# EAGLE library part TLV320AIC3256_YZF_42 (library Texas Instruments)
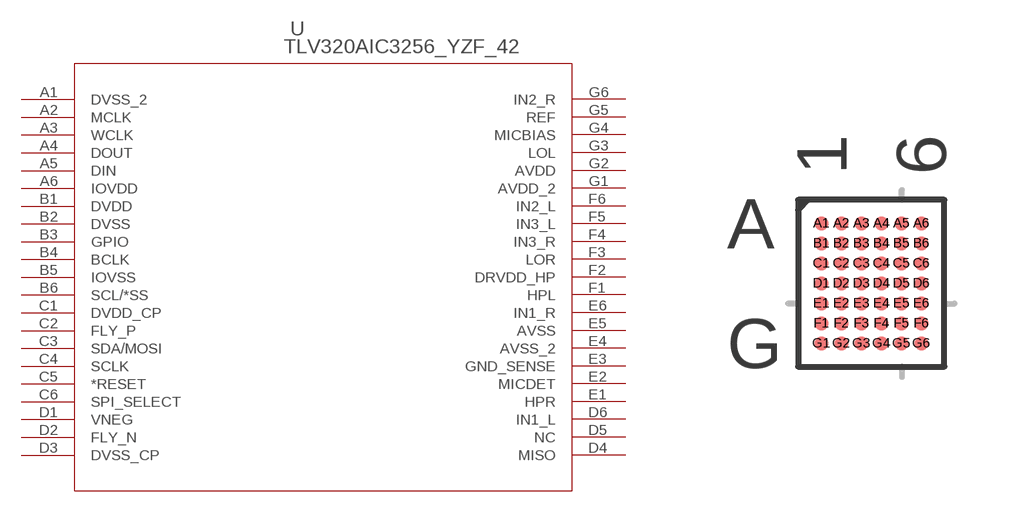
[diagram p19: symbol with the pads of YZF42; footprint YZF42]

Designator prefix U

## TLV320AIC3256_YZF_42 (DATASHEETURL: http://www.ti.com/lit/gpn/TLV320AIC3256; DESCRIPTION: Very Low-Power Stereo Codec with miniDSP and DirectPath(TM) HP Amplifier; FAMILY_NAME: Audio CODEC; GENERIC_PART_NUMBER: TLV320AIC3256; INDUSTRY_STD_PKG_TYPE: DSBGA; MANUFACTURER: Texas Instruments; MANUFACTURER_PART_NUMBER: tlv320aic3256_yzf_42; PACKAGE_DESIGNATOR: YZF; PIN_COUNT: 42; VENDOR: Texas Instruments)  [YZF42]
A1  DVSS_2  pwr
A2  MCLK  in
A3  WCLK
A4  DOUT  out
A5  DIN  in
A6  IOVDD
B1  DVDD  pwr
B2  DVSS  pwr
B3  GPIO
B4  BCLK
B5  IOVSS
B6  SCL/*SS  in
C1  DVDD_CP  pwr
C2  FLY_P  pwr
C3  SDA/MOSI
C4  SCLK  in
C5  *RESET  in
C6  SPI_SELECT  in
D1  VNEG  pwr
D2  FLY_N  pwr
D3  DVSS_CP  pwr
D4  MISO  out
D5  NC  pas
D6  IN1_L  in
E1  HPR  out
E2  MICDET  in
E3  GND_SENSE  in
E4  AVSS_2  pwr
E5  AVSS  pwr
E6  IN1_R  in
F1  HPL  out
F2  DRVDD_HP  pwr
F3  LOR  out
F4  IN3_R  in
F5  IN3_L  in
F6  IN2_L  in
G1  AVDD_2  pwr
G2  AVDD  pwr
G3  LOL  out
G4  MICBIAS  out
G5  REF  out
G6  IN2_R  in

## Footprint YZF42 (pad centres in mm)
smd 0.356 x 0.356: A1 -1.25,1.5; A2 -0.75,1.5; A3 -0.25,1.5; A4 0.25,1.5; A5 0.75,1.5; A6 1.25,1.5; B1 -1.25,1; B2 -0.75,1; B3 -0.25,1; B4 0.25,1; B5 0.75,1; B6 1.25,1; C1 -1.25,0.5; C2 -0.75,0.5; C3 -0.25,0.5; C4 0.25,0.5; C5 0.75,0.5; C6 1.25,0.5; D1 -1.25,0; D2 -0.75,0; D3 -0.25,0; D4 0.25,0; D5 0.75,0; D6 1.25,0; E1 -1.25,-0.5; E2 -0.75,-0.5; E3 -0.25,-0.5; E4 0.25,-0.5; E5 0.75,-0.5; E6 1.25,-0.5; F1 -1.25,-1; F2 -0.75,-1; F3 -0.25,-1; F4 0.25,-1; F5 0.75,-1; F6 1.25,-1; G1 -1.25,-1.5; G2 -0.75,-1.5; G3 -0.25,-1.5; G4 0.25,-1.5; G5 0.75,-1.5; G6 1.25,-1.5